# Altium integrated library Transistor.IntLib: 11 symbols
Pins are listed as number, name and electrical type; pins without a type are passive.

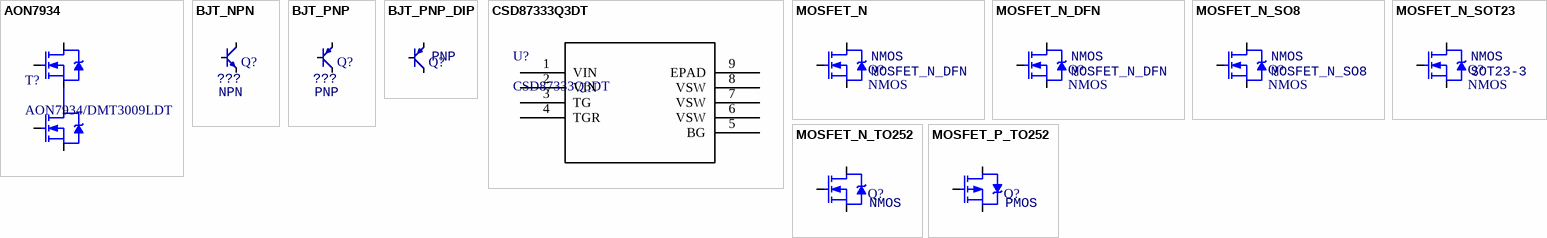
[diagram p0: symbols AON7934 to MOSFET_P_TO252]

## AON7934
designator T?, comment AON7934/DMT3009LDT
footprint AON7934
pins: 1 G1, 2 D1, 3 S1/D2, 3 S1/D2, 4 G2, 5 S2

## BJT_NPN
designator Q?, comment Type: NPN  (hidden comment: ???)
Transistor; Value: ???
footprint SOT23-3
pins: 1 B, 2 E, 3 C

## BJT_PNP
designator Q?, comment Type: ???  (hidden comment: PNP)
Transistor; Value: PNP
footprint SOT23-3
pins: 1 B, 2 E, 3 C

## BJT_PNP_DIP
designator Q?, comment PNP
Transistor; Value: PNP
footprint TO-92_HDR
pins: 1 E, 2 B, 3 C

## CSD87333Q3DT
designator U?
No Description Available; Vendor: Texas Instruments; SourceLibrary: TI_2019-05-21; Manufacturer_Part_Number: CSD87333Q3DT; Copyright: Copyright (C) 2018 Accelerated Designs. All rights reserved; RefDes: RefDes; Type: DEV
footprint CSD87333Q3D
pins: 1 VIN, 2 VIN, 3 TG, 4 TGR, 5 BG, 6 VSW, 7 VSW, 8 VSW, 9 EPAD

## MOSFET_N
designator Q?, comment NMOS  Type: MOSFET_N_DFN
MOSFET; Value: NMOS
footprint DSN1006
pins: 1 G, 2 S, 3 D

## MOSFET_N_DFN
designator Q?, comment NMOS  Type: MOSFET_N_DFN
MOSFET DFN3.3*3.3; Value: NMOS
footprint DFN_3.3*3.3
pins: 1 G, 2 S, 3 D

## MOSFET_N_SO8
designator Q?, comment NMOS  Type: MOSFET_N_SO8
MOSFET SO8; Value: NMOS
footprint SO8
pins: 1 G, 2 S, 3 D

## MOSFET_N_SOT23
designator Q?, comment NMOS  Type: SOT23-3
MOSFET; Value: NMOS
footprint SOT23-3
pins: 1 G, 2 S, 3 D

## MOSFET_N_TO252
designator Q?, comment NMOS
MOSFET; Value: NMOS
footprint TO-252AA
pins: 1 G, 3 S, 4 D

## MOSFET_P_TO252
designator Q?, comment PMOS
MOSFET; Value: PMOS
footprint TO-252AA
pins: 1 G, 3 S, 4 D